# EAGLE library part CLP6B (library D-LED)
SMD LEDs packaged in industry-standard PLCC6 package.
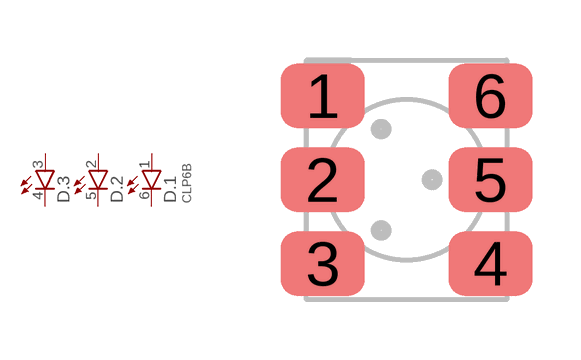
[diagram p0: symbol with the pads of PLCC6; footprint PLCC6]

Designator prefix D; gates .2=LED-NV .3=LED-NV .1=LED-V

## CLP6B  [PLCC6]
1  .1:A  pas
2  .2:A  pas
3  .3:A  pas
4  .3:K  pas
5  .2:K  pas
6  .1:K  pas

## Footprint PLCC6 (pad centres in mm)
PLCC6 6MM x 5MM 2.1MM pitch 4.2MM C-C across
smd 2.1 x 1.6: 1 -2.1,2.1; 2 -2.1,0; 3 -2.1,-2.1; 4 2.1,-2.1; 5 2.1,0; 6 2.1,2.1